# EAGLE library part MAX1771 (library nixiepsu)
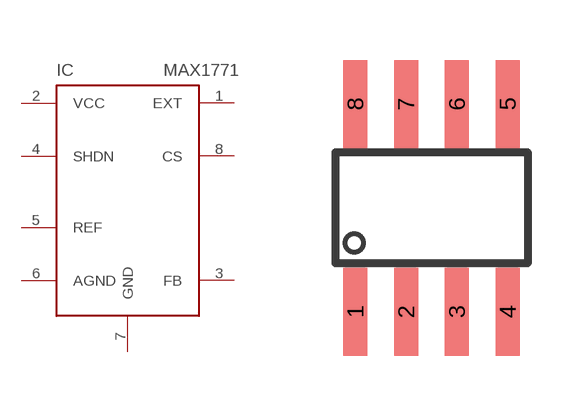
[diagram p0: symbol with the pads of SO-8; footprint SO-8]

Designator prefix IC

## MAX1771ESA  [SO-8]
1  EXT  out
2  VCC  in
3  FB  in
4  SHDN  in
5  REF  in
6  AGND  in
7  GND  in
8  CS  in

## Footprint SO-8 (pad centres in mm)
SO-8
smd 0.6 x 2.2: 1 -1.905,-2.6; 2 -0.635,-2.6; 3 0.635,-2.6; 4 1.905,-2.6; 5 1.905,2.6; 6 0.635,2.6; 7 -0.635,2.6; 8 -1.905,2.6